# EAGLE library part SPIRIT1 (library custom)
RF Transceiver IC
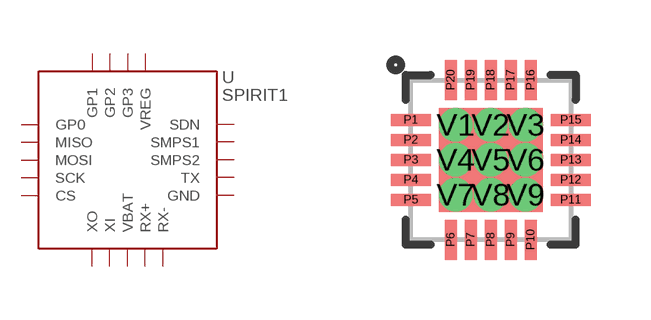
[diagram p95: symbol with the pads of 20-QFN; footprint 20-QFN]

Designator prefix U

## SPIRIT1  [20-QFN]
P1  GP0
P2  MISO
P3  MOSI
P4  SCK
P5  CS
P6  XO
P7  XI
P8  VBAT
P9  RX+
P10  RX-
P11  GND
P12  TX
P13  SMPS2
P14  SMPS1
P15  SDN
P16  VBAT
P17  VREG
P18  GP3
P19  GP2
P20  GP1
V1  GND
V2  GND
V3  GND
V4  GND
V5  GND
V6  GND
V7  GND
V8  GND
V9  GND

## Footprint 20-QFN (pad centres in mm)
smd 1 x 0.3: P1 -2,1; P2 -2,0.5; P3 -2,0; P4 -2,-0.5; P5 -2,-1; P11 2,-1; P12 2,-0.5; P13 2,0; P14 2,0.5; P15 2,1
smd 0.3 x 1: P6 -1,-2; P7 -0.5,-2; P8 0,-2; P9 0.5,-2; P10 1,-2; P16 1,2; P17 0.5,2; P18 0,2; P19 -0.5,2; P20 -1,2
drill 0.33: V1 -0.875,0.875; V2 0,0.875; V3 0.875,0.875; V4 -0.875,0; V5 0,0; V6 0.875,0; V7 -0.875,-0.875; V8 0,-0.875; V9 0.875,-0.875